# Altium integrated library Linear Technology Power Management Hot Swap Controllers.IntLib: 992 symbols (part 71 of 93)
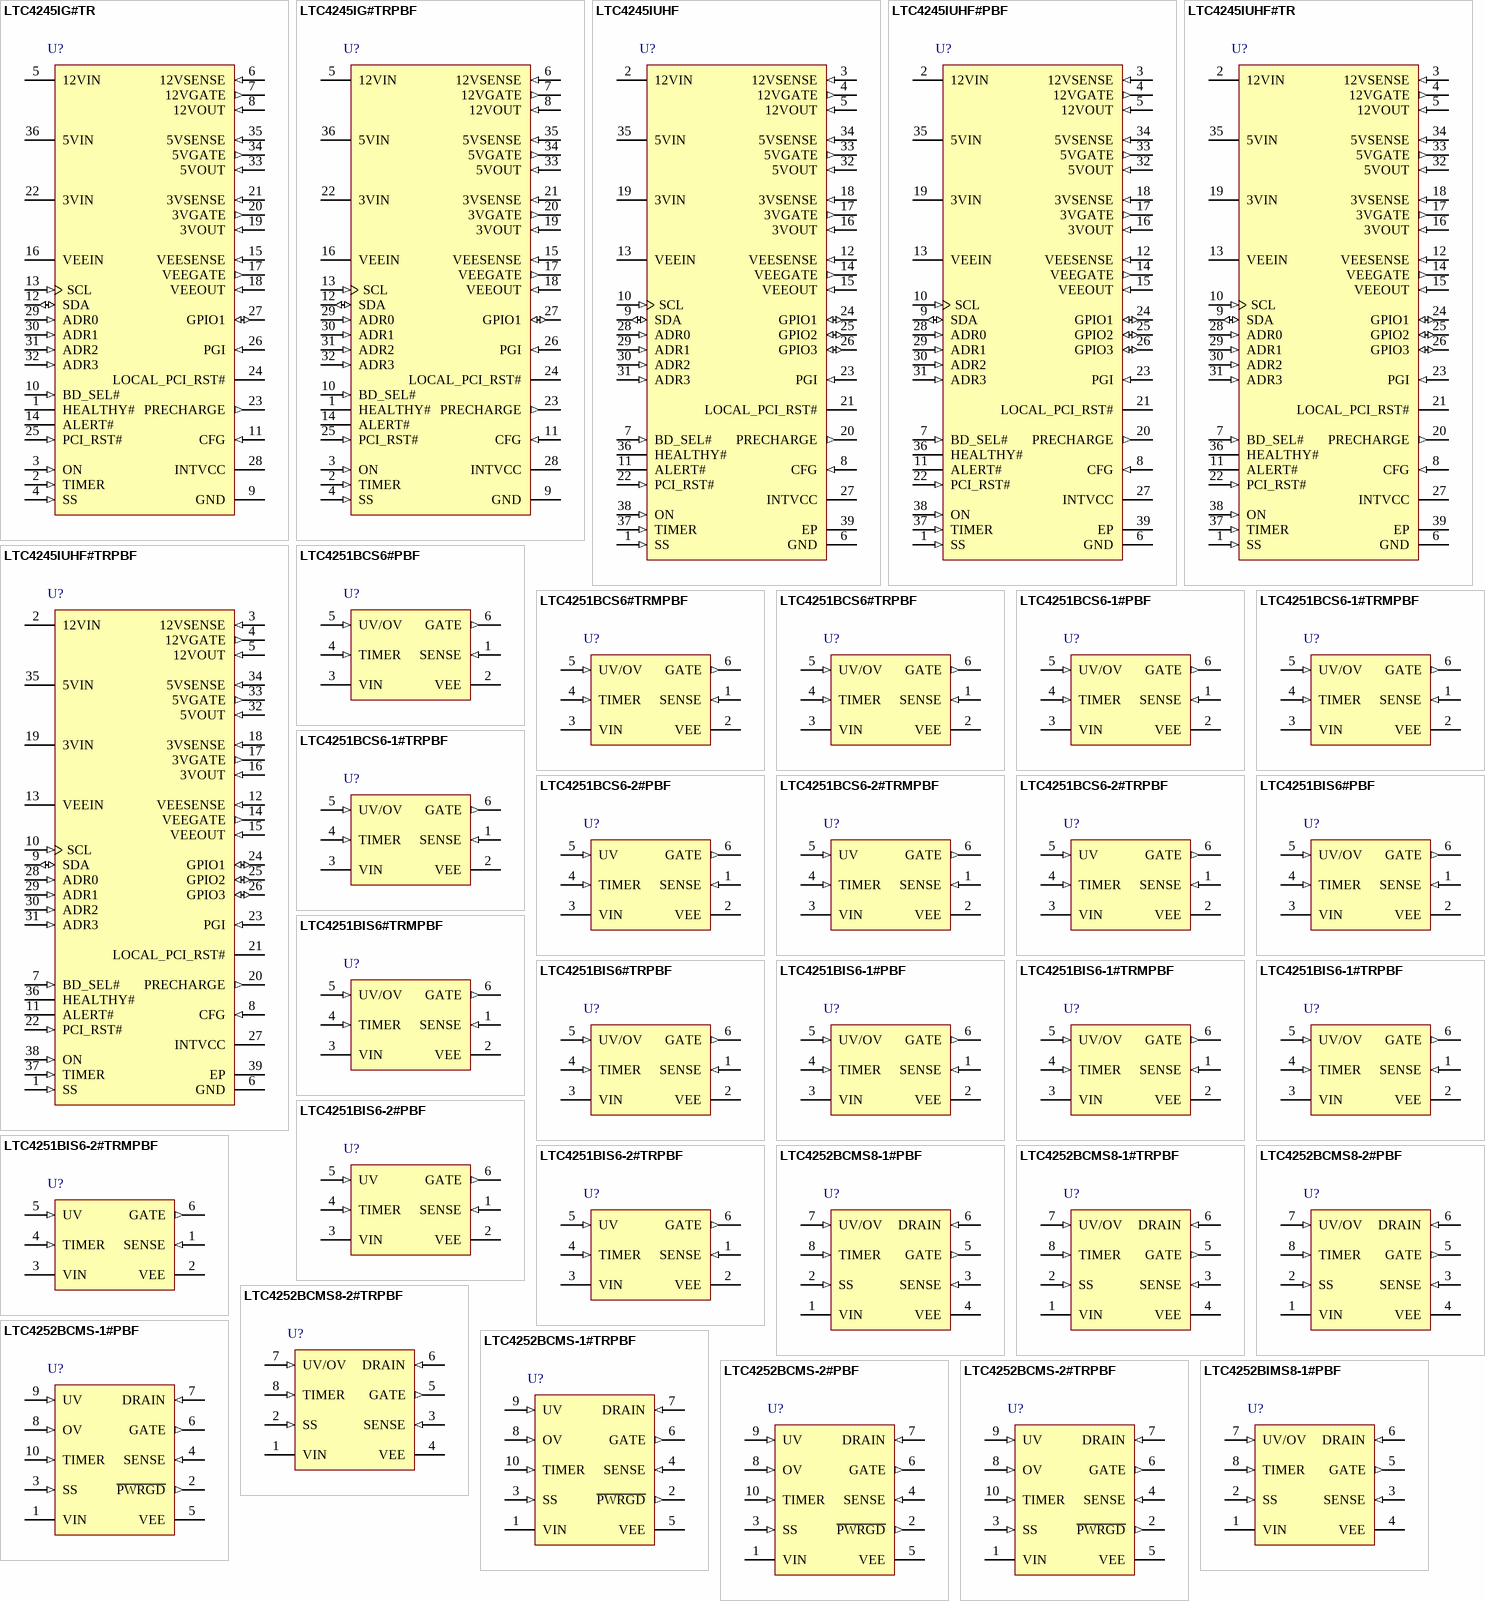
[diagram p107: symbols LTC4245IG#TR to LTC4252BIMS8-1#PBF]

## LTC4252BIMS8-1#PBF
designator U?
Negative Voltage Hot Swap Controller, 8-pin SOP (MS8-8), -40 to 85 degC, Pb-Free; Manufacturer: Linear Technology; PartNumber: LTC4252BIMS8-1#PBF; Active Limiting: yes; Circuit Breaker Accuracy(%): 20; Circuit Breaker Threshold: 50 mV; Circuit Breakers(#): 1; Extended Temp: C, I; In-Rush Current: Active/SS; PackageVersion: Rev. G, 03/2012; PackageReference: MS8-8; PackageDescription: 8-Pin Plastic MSOP, Body 3 x 3 mm, Pitch 0.65 mm; Supplier 1: Digi-Key; Supplier Part Number 1: LTC4252BIMS8-1#PBF-ND; Fast Comparator: yes; Fault: yes; Foldback: yes; Power Good: yes; Reset: yes; RoHS: TRUE; Mounting Technology: Surface Mount; ComponentLink1Description: Manufacturer URL; ComponentLink1URL: http://www.linear.com/; ComponentLink2Description: Datasheet; ComponentLink2URL: http://cds.linear.com/docs/en/datasheet/4252b12f.pdf; ComponentLink3Description: Package Specification; ComponentLink3URL: http://cds.linear.com/docs/en/packaging/05081660_G_MS8.pdf
footprint LT-MS8-8_N (SOP, 8-Leads, Body 3.1x3.1mm, Pitch 0.65mm, IPC Medium Density)
footprint LT-MS8-8_L (SOP, 8-Leads, Body 3.1x3.1mm, Pitch 0.65mm, IPC High Density)
footprint LT-MS8-8_M (SOP, 8-Leads, Body 3.1x3.1mm, Pitch 0.65mm, IPC Low Density)
pins: 1 VIN (power) "Positive Supply Input. Connect this pin to the positive side of the supply through a dropping resistor. A shunt regulator clamps VIN at 13V. An internal undervoltage lockout (UVLO) circuit holds GATE low until the VIN pin is (See Datasheet)", 2 SS (in) "Soft-Start Pin. This pin is used to ramp inrush current during start up, thereby effecting control over di/dt. A 20x attenuated version of the SS pin voltage is presented to the current limit amplifier. This attenuated (See Datasheet)", 3 SENSE (in) "Circuit Breaker/Current Limit Sense Pin. Load current is monitored by a sense resistor RS connected between SENSE and VEE, and controlled in three steps. If SENSE exceeds VCB (50mV), the circuit breaker comparator activates (See Datasheet)", 4 VEE (power) "Negative Supply Voltage Input. Connect this pin to the negative side of the power supply.", 5 GATE (out) "N-Channel MOSFET Gate Drive Output. This pin is pulled high by a 58uA current source. GATE is pulled low by invalid conditions at VIN (UVLO), UV, OV, or a circuit breaker fault timeout. GATE is actively servoed to control (See Datasheet)", 6 DRAIN (in) "Drain Sense Input. Connecting an external resistor, RD, between this pin and the MOSFET’s drain (VOUT) allows voltage sensing below 6.15V (5V for LTC4252C) and current feedback to TIMER. A comparator detects if DRAIN i(See Datasheet)", 7 UV/OV (in), 8 TIMER (in) "Timer Input. TIMER is used to generate an initial timing delay at start-up and to delay shutdown in the event of an output overload (circuit breaker fault). TIMER starts an initial timing cycle when the following conditions (See Datasheet)"

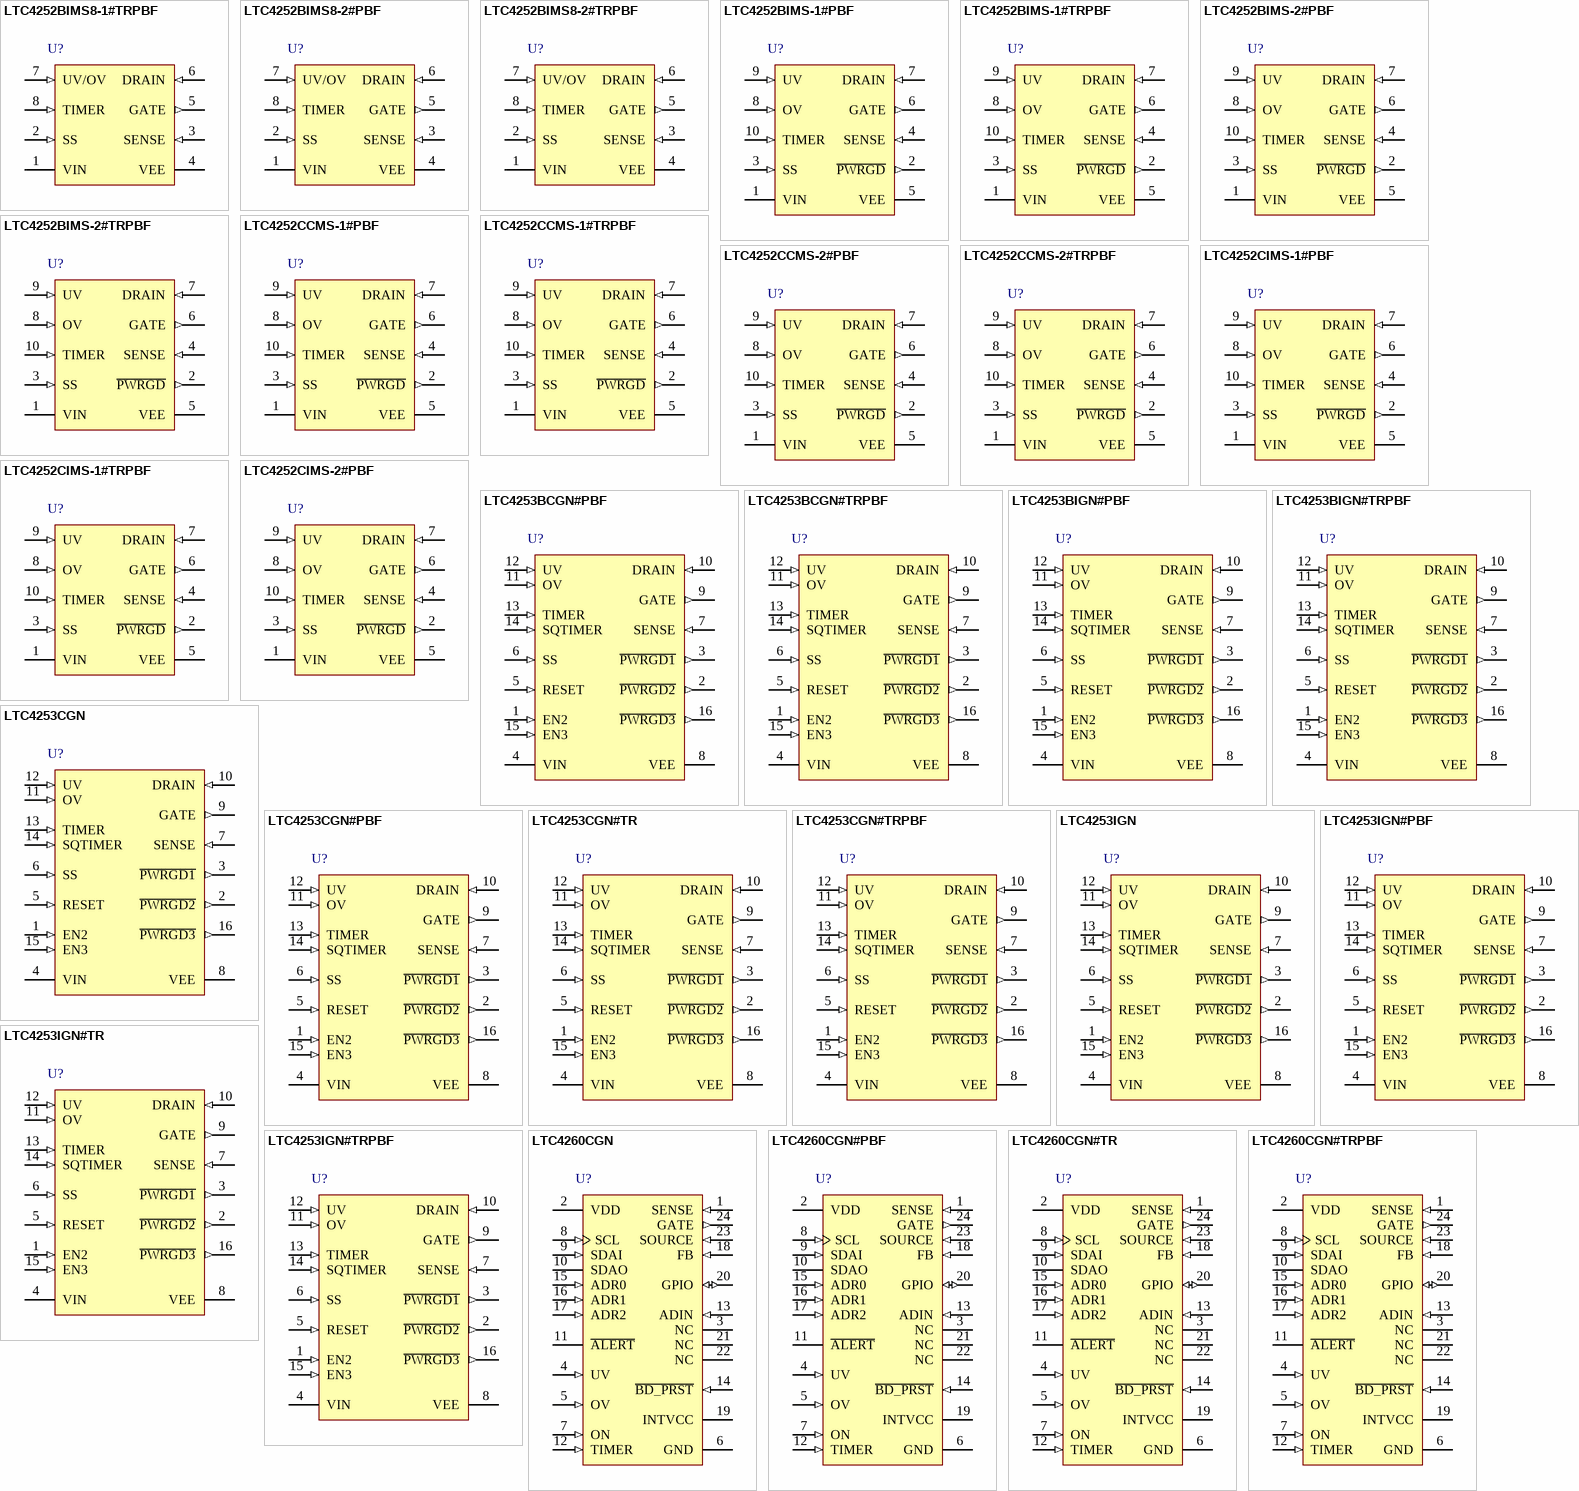
[diagram p29: symbols LTC4252BIMS8-1#TRPBF to LTC4260CGN#TRPBF]

## LTC4252BIMS8-1#TRPBF
designator U?
Negative Voltage Hot Swap Controller, 8-pin SOP (MS8-8), -40 to 85 degC, Pb-Free, Tape and Reel; Manufacturer: Linear Technology; PartNumber: LTC4252BIMS8-1#TRPBF; Active Limiting: yes; Circuit Breaker Accuracy(%): 20; Circuit Breaker Threshold: 50 mV; Circuit Breakers(#): 1; Extended Temp: C, I; In-Rush Current: Active/SS; PackageVersion: Rev. G, 03/2012; PackageReference: MS8-8; PackageDescription: 8-Pin Plastic MSOP, Body 3 x 3 mm, Pitch 0.65 mm; Supplier 1: Digi-Key; Supplier Part Number 1: LTC4252BIMS8-1#TRPBF-ND; Fast Comparator: yes; Fault: yes; Foldback: yes; Packing: Tape and Reel; Power Good: yes; Reset: yes; RoHS: TRUE; Mounting Technology: Surface Mount; ComponentLink1Description: Manufacturer URL; ComponentLink1URL: http://www.linear.com/; ComponentLink2Description: Datasheet; ComponentLink2URL: http://cds.linear.com/docs/en/datasheet/4252b12f.pdf; ComponentLink3Description: Package Specification; ComponentLink3URL: http://cds.linear.com/docs/en/packaging/05081660_G_MS8.pdf
footprint LT-MS8-8_N (SOP, 8-Leads, Body 3.1x3.1mm, Pitch 0.65mm, IPC Medium Density)
footprint LT-MS8-8_L (SOP, 8-Leads, Body 3.1x3.1mm, Pitch 0.65mm, IPC High Density)
footprint LT-MS8-8_M (SOP, 8-Leads, Body 3.1x3.1mm, Pitch 0.65mm, IPC Low Density)
pins: 1 VIN (power) "Positive Supply Input. Connect this pin to the positive side of the supply through a dropping resistor. A shunt regulator clamps VIN at 13V. An internal undervoltage lockout (UVLO) circuit holds GATE low until the VIN pin is (See Datasheet)", 2 SS (in) "Soft-Start Pin. This pin is used to ramp inrush current during start up, thereby effecting control over di/dt. A 20x attenuated version of the SS pin voltage is presented to the current limit amplifier. This attenuated (See Datasheet)", 3 SENSE (in) "Circuit Breaker/Current Limit Sense Pin. Load current is monitored by a sense resistor RS connected between SENSE and VEE, and controlled in three steps. If SENSE exceeds VCB (50mV), the circuit breaker comparator activates (See Datasheet)", 4 VEE (power) "Negative Supply Voltage Input. Connect this pin to the negative side of the power supply.", 5 GATE (out) "N-Channel MOSFET Gate Drive Output. This pin is pulled high by a 58uA current source. GATE is pulled low by invalid conditions at VIN (UVLO), UV, OV, or a circuit breaker fault timeout. GATE is actively servoed to control (See Datasheet)", 6 DRAIN (in) "Drain Sense Input. Connecting an external resistor, RD, between this pin and the MOSFET’s drain (VOUT) allows voltage sensing below 6.15V (5V for LTC4252C) and current feedback to TIMER. A comparator detects if DRAIN i(See Datasheet)", 7 UV/OV (in), 8 TIMER (in) "Timer Input. TIMER is used to generate an initial timing delay at start-up and to delay shutdown in the event of an output overload (circuit breaker fault). TIMER starts an initial timing cycle when the following conditions (See Datasheet)"

## LTC4252BIMS8-2#PBF
designator U?
Negative Voltage Hot Swap Controller, 8-pin SOP (MS8-8), -40 to 85 degC, Pb-Free; Manufacturer: Linear Technology; PartNumber: LTC4252BIMS8-2#PBF; Active Limiting: yes; Circuit Breaker Accuracy(%): 20; Circuit Breaker Threshold: 50 mV; Circuit Breakers(#): 1; Extended Temp: C, I; In-Rush Current: Active/SS; PackageVersion: Rev. G, 03/2012; PackageReference: MS8-8; PackageDescription: 8-Pin Plastic MSOP, Body 3 x 3 mm, Pitch 0.65 mm; Supplier 1: Digi-Key; Supplier Part Number 1: LTC4252BIMS8-2#PBF-ND; Fast Comparator: yes; Fault: yes; Foldback: yes; Power Good: yes; Reset: yes; RoHS: TRUE; Mounting Technology: Surface Mount; ComponentLink1Description: Manufacturer URL; ComponentLink1URL: http://www.linear.com/; ComponentLink2Description: Datasheet; ComponentLink2URL: http://cds.linear.com/docs/en/datasheet/4252b12f.pdf; ComponentLink3Description: Package Specification; ComponentLink3URL: http://cds.linear.com/docs/en/packaging/05081660_G_MS8.pdf
footprint LT-MS8-8_N (SOP, 8-Leads, Body 3.1x3.1mm, Pitch 0.65mm, IPC Medium Density)
footprint LT-MS8-8_L (SOP, 8-Leads, Body 3.1x3.1mm, Pitch 0.65mm, IPC High Density)
footprint LT-MS8-8_M (SOP, 8-Leads, Body 3.1x3.1mm, Pitch 0.65mm, IPC Low Density)
pins: 1 VIN (power) "Positive Supply Input. Connect this pin to the positive side of the supply through a dropping resistor. A shunt regulator clamps VIN at 13V. An internal undervoltage lockout (UVLO) circuit holds GATE low until the VIN pin is (See Datasheet)", 2 SS (in) "Soft-Start Pin. This pin is used to ramp inrush current during start up, thereby effecting control over di/dt. A 20x attenuated version of the SS pin voltage is presented to the current limit amplifier. This attenuated (See Datasheet)", 3 SENSE (in) "Circuit Breaker/Current Limit Sense Pin. Load current is monitored by a sense resistor RS connected between SENSE and VEE, and controlled in three steps. If SENSE exceeds VCB (50mV), the circuit breaker comparator activates (See Datasheet)", 4 VEE (power) "Negative Supply Voltage Input. Connect this pin to the negative side of the power supply.", 5 GATE (out) "N-Channel MOSFET Gate Drive Output. This pin is pulled high by a 58uA current source. GATE is pulled low by invalid conditions at VIN (UVLO), UV, OV, or a circuit breaker fault timeout. GATE is actively servoed to control (See Datasheet)", 6 DRAIN (in) "Drain Sense Input. Connecting an external resistor, RD, between this pin and the MOSFET’s drain (VOUT) allows voltage sensing below 6.15V (5V for LTC4252C) and current feedback to TIMER. A comparator detects if DRAIN i(See Datasheet)", 7 UV/OV (in), 8 TIMER (in) "Timer Input. TIMER is used to generate an initial timing delay at start-up and to delay shutdown in the event of an output overload (circuit breaker fault). TIMER starts an initial timing cycle when the following conditions (See Datasheet)"

## LTC4252BIMS8-2#TRPBF
designator U?
Negative Voltage Hot Swap Controller, 8-pin SOP (MS8-8), -40 to 85 degC, Pb-Free, Tape and Reel; Manufacturer: Linear Technology; PartNumber: LTC4252BIMS8-2#TRPBF; Active Limiting: yes; Circuit Breaker Accuracy(%): 20; Circuit Breaker Threshold: 50 mV; Circuit Breakers(#): 1; Extended Temp: C, I; In-Rush Current: Active/SS; PackageVersion: Rev. G, 03/2012; PackageReference: MS8-8; PackageDescription: 8-Pin Plastic MSOP, Body 3 x 3 mm, Pitch 0.65 mm; Supplier 1: Digi-Key; Supplier Part Number 1: LTC4252BIMS8-2#TRPBF-ND; Fast Comparator: yes; Fault: yes; Foldback: yes; Packing: Tape and Reel; Power Good: yes; Reset: yes; RoHS: TRUE; Mounting Technology: Surface Mount; ComponentLink1Description: Manufacturer URL; ComponentLink1URL: http://www.linear.com/; ComponentLink2Description: Datasheet; ComponentLink2URL: http://cds.linear.com/docs/en/datasheet/4252b12f.pdf; ComponentLink3Description: Package Specification; ComponentLink3URL: http://cds.linear.com/docs/en/packaging/05081660_G_MS8.pdf
footprint LT-MS8-8_N (SOP, 8-Leads, Body 3.1x3.1mm, Pitch 0.65mm, IPC Medium Density)
footprint LT-MS8-8_L (SOP, 8-Leads, Body 3.1x3.1mm, Pitch 0.65mm, IPC High Density)
footprint LT-MS8-8_M (SOP, 8-Leads, Body 3.1x3.1mm, Pitch 0.65mm, IPC Low Density)
pins: 1 VIN (power) "Positive Supply Input. Connect this pin to the positive side of the supply through a dropping resistor. A shunt regulator clamps VIN at 13V. An internal undervoltage lockout (UVLO) circuit holds GATE low until the VIN pin is (See Datasheet)", 2 SS (in) "Soft-Start Pin. This pin is used to ramp inrush current during start up, thereby effecting control over di/dt. A 20x attenuated version of the SS pin voltage is presented to the current limit amplifier. This attenuated (See Datasheet)", 3 SENSE (in) "Circuit Breaker/Current Limit Sense Pin. Load current is monitored by a sense resistor RS connected between SENSE and VEE, and controlled in three steps. If SENSE exceeds VCB (50mV), the circuit breaker comparator activates (See Datasheet)", 4 VEE (power) "Negative Supply Voltage Input. Connect this pin to the negative side of the power supply.", 5 GATE (out) "N-Channel MOSFET Gate Drive Output. This pin is pulled high by a 58uA current source. GATE is pulled low by invalid conditions at VIN (UVLO), UV, OV, or a circuit breaker fault timeout. GATE is actively servoed to control (See Datasheet)", 6 DRAIN (in) "Drain Sense Input. Connecting an external resistor, RD, between this pin and the MOSFET’s drain (VOUT) allows voltage sensing below 6.15V (5V for LTC4252C) and current feedback to TIMER. A comparator detects if DRAIN i(See Datasheet)", 7 UV/OV (in), 8 TIMER (in) "Timer Input. TIMER is used to generate an initial timing delay at start-up and to delay shutdown in the event of an output overload (circuit breaker fault). TIMER starts an initial timing cycle when the following conditions (See Datasheet)"

## LTC4252BIMS-1#PBF
designator U?
Negative Voltage Hot Swap Controller, 10-pin SOP (MS-10), -40 to 85 degC, Pb-Free; Manufacturer: Linear Technology; PartNumber: LTC4252BIMS-1#PBF; Active Limiting: yes; Circuit Breaker Accuracy(%): 20; Circuit Breaker Threshold: 50 mV; Circuit Breakers(#): 1; Extended Temp: C, I; In-Rush Current: Active/SS; PackageVersion: Rev. E, 06/2010; PackageReference: MS-10; PackageDescription: 10-Pin Plastic MSOP, Body 3 x 3 mm, Pitch 0.5 mm; Supplier 1: Digi-Key; Supplier Part Number 1: LTC4252BIMS-1#PBF-ND; Fast Comparator: yes; Fault: yes; Foldback: yes; Power Good: yes; Reset: yes; RoHS: TRUE; Mounting Technology: Surface Mount; ComponentLink1Description: Manufacturer URL; ComponentLink1URL: http://www.linear.com/; ComponentLink2Description: Datasheet; ComponentLink2URL: http://cds.linear.com/docs/en/datasheet/4252b12f.pdf; ComponentLink3Description: Package Specification; ComponentLink3URL: http://cds.linear.com/docs/en/packaging/05081661_F_MS.pdf
footprint LT-MS-10_N (SOP, 10-Leads, Body 3.1x3.1mm, Pitch 0.5mm, IPC Medium Density)
footprint LT-MS-10_L (SOP, 10-Leads, Body 3.1x3.1mm, Pitch 0.5mm, IPC High Density)
footprint LT-MS-10_M (SOP, 10-Leads, Body 3.1x3.1mm, Pitch 0.5mm, IPC Low Density)
pins: 1 VIN (power) "Positive Supply Input. Connect this pin to the positive side of the supply through a dropping resistor. A shunt regulator clamps VIN at 13V. An internal undervoltage lockout (UVLO) circuit holds GATE low until the VIN pin is (See Datasheet)", 2 ~{PWRGD} (out) "Power Good Status Output (MS only). At start-up, P\W\R\G\D\ latches low if DRAIN is below 2.385V and GATE is within 2.8V of VIN. P\W\R\G\D\ status is reset by UV, VIN (UVLO) or a circuit breaker fault timeout. This pin is (See Datasheet)", 3 SS (in) "Soft-Start Pin. This pin is used to ramp inrush current during start up, thereby effecting control over di/dt. A 20x attenuated version of the SS pin voltage is presented to the current limit amplifier. This attenuated (See Datasheet)", 4 SENSE (in) "Circuit Breaker/Current Limit Sense Pin. Load current is monitored by a sense resistor RS connected between SENSE and VEE, and controlled in three steps. If SENSE exceeds VCB (50mV), the circuit breaker comparator activates (See Datasheet)", 5 VEE (power) "Negative Supply Voltage Input. Connect this pin to the negative side of the power supply.", 6 GATE (out) "N-Channel MOSFET Gate Drive Output. This pin is pulled high by a 58uA current source. GATE is pulled low by invalid conditions at VIN (UVLO), UV, OV, or a circuit breaker fault timeout. GATE is actively servoed to control (See Datasheet)", 7 DRAIN (in) "Drain Sense Input. Connecting an external resistor, RD, between this pin and the MOSFET’s drain (VOUT) allows voltage sensing below 6.15V (5V for LTC4252C) and current feedback to TIMER. A comparator detects if DRAIN i(See Datasheet)", 8 OV (in) "Overvoltage Input. The active high threshold at the OV pin is set at 6.15V with 0.6V hysteresis. If OV > 6.15V, GATE pulls low. When OV returns below 5.55V, GATE start-up begins without an initial timing cycle. The LTC4252C (See Datasheet)", 9 UV (in) "Undervoltage Input. The active low threshold at the UV pin is set at 2.925V with 0.3V hysteresis. If UV < 2.925V, P\W\R\G\D\ pulls high, both GATE and TIMER pull low. If UV rises above 3.225V, this initiates an initial (See Datasheet)", 10 TIMER (in) "Timer Input. TIMER is used to generate an initial timing delay at start-up and to delay shutdown in the event of an output overload (circuit breaker fault). TIMER starts an initial timing cycle when the following conditions (See Datasheet)"

## LTC4252BIMS-1#TRPBF
designator U?
Negative Voltage Hot Swap Controller, 10-pin SOP (MS-10), -40 to 85 degC, Pb-Free, Tape and Reel; Manufacturer: Linear Technology; PartNumber: LTC4252BIMS-1#TRPBF; Active Limiting: yes; Circuit Breaker Accuracy(%): 20; Circuit Breaker Threshold: 50 mV; Circuit Breakers(#): 1; Extended Temp: C, I; In-Rush Current: Active/SS; PackageVersion: Rev. E, 06/2010; PackageReference: MS-10; PackageDescription: 10-Pin Plastic MSOP, Body 3 x 3 mm, Pitch 0.5 mm; Supplier 1: Digi-Key; Supplier Part Number 1: LTC4252BIMS-1#TRPBF-ND; Fast Comparator: yes; Fault: yes; Foldback: yes; Packing: Tape and Reel; Power Good: yes; Reset: yes; RoHS: TRUE; Mounting Technology: Surface Mount; ComponentLink1Description: Manufacturer URL; ComponentLink1URL: http://www.linear.com/; ComponentLink2Description: Datasheet; ComponentLink2URL: http://cds.linear.com/docs/en/datasheet/4252b12f.pdf; ComponentLink3Description: Package Specification; ComponentLink3URL: http://cds.linear.com/docs/en/packaging/05081661_F_MS.pdf
footprint LT-MS-10_N (SOP, 10-Leads, Body 3.1x3.1mm, Pitch 0.5mm, IPC Medium Density)
footprint LT-MS-10_L (SOP, 10-Leads, Body 3.1x3.1mm, Pitch 0.5mm, IPC High Density)
footprint LT-MS-10_M (SOP, 10-Leads, Body 3.1x3.1mm, Pitch 0.5mm, IPC Low Density)
pins: 1 VIN (power) "Positive Supply Input. Connect this pin to the positive side of the supply through a dropping resistor. A shunt regulator clamps VIN at 13V. An internal undervoltage lockout (UVLO) circuit holds GATE low until the VIN pin is (See Datasheet)", 2 ~{PWRGD} (out) "Power Good Status Output (MS only). At start-up, P\W\R\G\D\ latches low if DRAIN is below 2.385V and GATE is within 2.8V of VIN. P\W\R\G\D\ status is reset by UV, VIN (UVLO) or a circuit breaker fault timeout. This pin is (See Datasheet)", 3 SS (in) "Soft-Start Pin. This pin is used to ramp inrush current during start up, thereby effecting control over di/dt. A 20x attenuated version of the SS pin voltage is presented to the current limit amplifier. This attenuated (See Datasheet)", 4 SENSE (in) "Circuit Breaker/Current Limit Sense Pin. Load current is monitored by a sense resistor RS connected between SENSE and VEE, and controlled in three steps. If SENSE exceeds VCB (50mV), the circuit breaker comparator activates (See Datasheet)", 5 VEE (power) "Negative Supply Voltage Input. Connect this pin to the negative side of the power supply.", 6 GATE (out) "N-Channel MOSFET Gate Drive Output. This pin is pulled high by a 58uA current source. GATE is pulled low by invalid conditions at VIN (UVLO), UV, OV, or a circuit breaker fault timeout. GATE is actively servoed to control (See Datasheet)", 7 DRAIN (in) "Drain Sense Input. Connecting an external resistor, RD, between this pin and the MOSFET’s drain (VOUT) allows voltage sensing below 6.15V (5V for LTC4252C) and current feedback to TIMER. A comparator detects if DRAIN i(See Datasheet)", 8 OV (in) "Overvoltage Input. The active high threshold at the OV pin is set at 6.15V with 0.6V hysteresis. If OV > 6.15V, GATE pulls low. When OV returns below 5.55V, GATE start-up begins without an initial timing cycle. The LTC4252C (See Datasheet)", 9 UV (in) "Undervoltage Input. The active low threshold at the UV pin is set at 2.925V with 0.3V hysteresis. If UV < 2.925V, P\W\R\G\D\ pulls high, both GATE and TIMER pull low. If UV rises above 3.225V, this initiates an initial (See Datasheet)", 10 TIMER (in) "Timer Input. TIMER is used to generate an initial timing delay at start-up and to delay shutdown in the event of an output overload (circuit breaker fault). TIMER starts an initial timing cycle when the following conditions (See Datasheet)"

## LTC4252BIMS-2#PBF
designator U?
Negative Voltage Hot Swap Controller, 10-pin SOP (MS-10), -40 to 85 degC, Pb-Free; Manufacturer: Linear Technology; PartNumber: LTC4252BIMS-2#PBF; Active Limiting: yes; Circuit Breaker Accuracy(%): 20; Circuit Breaker Threshold: 50 mV; Circuit Breakers(#): 1; Extended Temp: C, I; In-Rush Current: Active/SS; PackageVersion: Rev. E, 06/2010; PackageReference: MS-10; PackageDescription: 10-Pin Plastic MSOP, Body 3 x 3 mm, Pitch 0.5 mm; Supplier 1: Digi-Key; Supplier Part Number 1: LTC4252BIMS-2#PBF-ND; Supplier 2: Newark; Supplier Part Number 2: 82T3933; Fast Comparator: yes; Fault: yes; Foldback: yes; Power Good: yes; Reset: yes; RoHS: TRUE; Mounting Technology: Surface Mount; ComponentLink1Description: Manufacturer URL; ComponentLink1URL: http://www.linear.com/; ComponentLink2Description: Datasheet; ComponentLink2URL: http://cds.linear.com/docs/en/datasheet/4252b12f.pdf; ComponentLink3Description: Package Specification; ComponentLink3URL: http://cds.linear.com/docs/en/packaging/05081661_F_MS.pdf
footprint LT-MS-10_N (SOP, 10-Leads, Body 3.1x3.1mm, Pitch 0.5mm, IPC Medium Density)
footprint LT-MS-10_L (SOP, 10-Leads, Body 3.1x3.1mm, Pitch 0.5mm, IPC High Density)
footprint LT-MS-10_M (SOP, 10-Leads, Body 3.1x3.1mm, Pitch 0.5mm, IPC Low Density)
pins: 1 VIN (power) "Positive Supply Input. Connect this pin to the positive side of the supply through a dropping resistor. A shunt regulator clamps VIN at 13V. An internal undervoltage lockout (UVLO) circuit holds GATE low until the VIN pin is (See Datasheet)", 2 ~{PWRGD} (out) "Power Good Status Output (MS only). At start-up, P\W\R\G\D\ latches low if DRAIN is below 2.385V and GATE is within 2.8V of VIN. P\W\R\G\D\ status is reset by UV, VIN (UVLO) or a circuit breaker fault timeout. This pin is (See Datasheet)", 3 SS (in) "Soft-Start Pin. This pin is used to ramp inrush current during start up, thereby effecting control over di/dt. A 20x attenuated version of the SS pin voltage is presented to the current limit amplifier. This attenuated (See Datasheet)", 4 SENSE (in) "Circuit Breaker/Current Limit Sense Pin. Load current is monitored by a sense resistor RS connected between SENSE and VEE, and controlled in three steps. If SENSE exceeds VCB (50mV), the circuit breaker comparator activates (See Datasheet)", 5 VEE (power) "Negative Supply Voltage Input. Connect this pin to the negative side of the power supply.", 6 GATE (out) "N-Channel MOSFET Gate Drive Output. This pin is pulled high by a 58uA current source. GATE is pulled low by invalid conditions at VIN (UVLO), UV, OV, or a circuit breaker fault timeout. GATE is actively servoed to control (See Datasheet)", 7 DRAIN (in) "Drain Sense Input. Connecting an external resistor, RD, between this pin and the MOSFET’s drain (VOUT) allows voltage sensing below 6.15V (5V for LTC4252C) and current feedback to TIMER. A comparator detects if DRAIN i(See Datasheet)", 8 OV (in) "Overvoltage Input. The active high threshold at the OV pin is set at 6.15V with 0.6V hysteresis. If OV > 6.15V, GATE pulls low. When OV returns below 5.55V, GATE start-up begins without an initial timing cycle. The LTC4252C (See Datasheet)", 9 UV (in) "Undervoltage Input. The active low threshold at the UV pin is set at 2.925V with 0.3V hysteresis. If UV < 2.925V, P\W\R\G\D\ pulls high, both GATE and TIMER pull low. If UV rises above 3.225V, this initiates an initial (See Datasheet)", 10 TIMER (in) "Timer Input. TIMER is used to generate an initial timing delay at start-up and to delay shutdown in the event of an output overload (circuit breaker fault). TIMER starts an initial timing cycle when the following conditions (See Datasheet)"

## LTC4252BIMS-2#TRPBF
designator U?
Negative Voltage Hot Swap Controller, 10-pin SOP (MS-10), -40 to 85 degC, Pb-Free, Tape and Reel; Manufacturer: Linear Technology; PartNumber: LTC4252BIMS-2#TRPBF; Active Limiting: yes; Circuit Breaker Accuracy(%): 20; Circuit Breaker Threshold: 50 mV; Circuit Breakers(#): 1; Extended Temp: C, I; In-Rush Current: Active/SS; PackageVersion: Rev. E, 06/2010; PackageReference: MS-10; PackageDescription: 10-Pin Plastic MSOP, Body 3 x 3 mm, Pitch 0.5 mm; Supplier 1: Digi-Key; Supplier Part Number 1: LTC4252BIMS-2#TRPBF-ND; Supplier 2: Newark; Supplier Part Number 2: 82T3934; Fast Comparator: yes; Fault: yes; Foldback: yes; Packing: Tape and Reel; Power Good: yes; Reset: yes; RoHS: TRUE; Mounting Technology: Surface Mount; ComponentLink1Description: Manufacturer URL; ComponentLink1URL: http://www.linear.com/; ComponentLink2Description: Datasheet; ComponentLink2URL: http://cds.linear.com/docs/en/datasheet/4252b12f.pdf; ComponentLink3Description: Package Specification; ComponentLink3URL: http://cds.linear.com/docs/en/packaging/05081661_F_MS.pdf
footprint LT-MS-10_N (SOP, 10-Leads, Body 3.1x3.1mm, Pitch 0.5mm, IPC Medium Density)
footprint LT-MS-10_L (SOP, 10-Leads, Body 3.1x3.1mm, Pitch 0.5mm, IPC High Density)
footprint LT-MS-10_M (SOP, 10-Leads, Body 3.1x3.1mm, Pitch 0.5mm, IPC Low Density)
pins: 1 VIN (power) "Positive Supply Input. Connect this pin to the positive side of the supply through a dropping resistor. A shunt regulator clamps VIN at 13V. An internal undervoltage lockout (UVLO) circuit holds GATE low until the VIN pin is (See Datasheet)", 2 ~{PWRGD} (out) "Power Good Status Output (MS only). At start-up, P\W\R\G\D\ latches low if DRAIN is below 2.385V and GATE is within 2.8V of VIN. P\W\R\G\D\ status is reset by UV, VIN (UVLO) or a circuit breaker fault timeout. This pin is (See Datasheet)", 3 SS (in) "Soft-Start Pin. This pin is used to ramp inrush current during start up, thereby effecting control over di/dt. A 20x attenuated version of the SS pin voltage is presented to the current limit amplifier. This attenuated (See Datasheet)", 4 SENSE (in) "Circuit Breaker/Current Limit Sense Pin. Load current is monitored by a sense resistor RS connected between SENSE and VEE, and controlled in three steps. If SENSE exceeds VCB (50mV), the circuit breaker comparator activates (See Datasheet)", 5 VEE (power) "Negative Supply Voltage Input. Connect this pin to the negative side of the power supply.", 6 GATE (out) "N-Channel MOSFET Gate Drive Output. This pin is pulled high by a 58uA current source. GATE is pulled low by invalid conditions at VIN (UVLO), UV, OV, or a circuit breaker fault timeout. GATE is actively servoed to control (See Datasheet)", 7 DRAIN (in) "Drain Sense Input. Connecting an external resistor, RD, between this pin and the MOSFET’s drain (VOUT) allows voltage sensing below 6.15V (5V for LTC4252C) and current feedback to TIMER. A comparator detects if DRAIN i(See Datasheet)", 8 OV (in) "Overvoltage Input. The active high threshold at the OV pin is set at 6.15V with 0.6V hysteresis. If OV > 6.15V, GATE pulls low. When OV returns below 5.55V, GATE start-up begins without an initial timing cycle. The LTC4252C (See Datasheet)", 9 UV (in) "Undervoltage Input. The active low threshold at the UV pin is set at 2.925V with 0.3V hysteresis. If UV < 2.925V, P\W\R\G\D\ pulls high, both GATE and TIMER pull low. If UV rises above 3.225V, this initiates an initial (See Datasheet)", 10 TIMER (in) "Timer Input. TIMER is used to generate an initial timing delay at start-up and to delay shutdown in the event of an output overload (circuit breaker fault). TIMER starts an initial timing cycle when the following conditions (See Datasheet)"

## LTC4252CCMS-1#PBF
designator U?
Negative Voltage Hot Swap Controller, 10-pin SOP (MS-10), 0 to 70 degC, Pb-Free; Manufacturer: Linear Technology; PartNumber: LTC4252CCMS-1#PBF; Active Limiting: yes; Circuit Breaker Accuracy(%): 10; Circuit Breaker Threshold: 50 mV; Circuit Breakers(#): 1; Extended Temp: C, I; In-Rush Current: Active/SS; PackageVersion: Rev. E, 06/2010; PackageReference: MS-10; PackageDescription: 10-Pin Plastic MSOP, Body 3 x 3 mm, Pitch 0.5 mm; Supplier 1: Digi-Key; Supplier Part Number 1: LTC4252CCMS-1#PBF-ND; Supplier 2: Newark; Supplier Part Number 2: 82T3939; Fast Comparator: yes; Fault: yes; Foldback: yes; Power Good: yes; Reset: yes; RoHS: TRUE; Mounting Technology: Surface Mount; ComponentLink1Description: Manufacturer URL; ComponentLink1URL: http://www.linear.com/; ComponentLink2Description: Datasheet; ComponentLink2URL: http://cds.linear.com/docs/en/datasheet/4252b12f.pdf; ComponentLink3Description: Package Specification; ComponentLink3URL: http://cds.linear.com/docs/en/packaging/05081661_F_MS.pdf
footprint LT-MS-10_N (SOP, 10-Leads, Body 3.1x3.1mm, Pitch 0.5mm, IPC Medium Density)
footprint LT-MS-10_L (SOP, 10-Leads, Body 3.1x3.1mm, Pitch 0.5mm, IPC High Density)
footprint LT-MS-10_M (SOP, 10-Leads, Body 3.1x3.1mm, Pitch 0.5mm, IPC Low Density)
pins: 1 VIN (power) "Positive Supply Input. Connect this pin to the positive side of the supply through a dropping resistor. A shunt regulator clamps VIN at 13V. An internal undervoltage lockout (UVLO) circuit holds GATE low until the VIN pin is (See Datasheet)", 2 ~{PWRGD} (out) "Power Good Status Output (MS only). At start-up, P\W\R\G\D\ latches low if DRAIN is below 2.385V and GATE is within 2.8V of VIN. P\W\R\G\D\ status is reset by UV, VIN (UVLO) or a circuit breaker fault timeout. This pin is (See Datasheet)", 3 SS (in) "Soft-Start Pin. This pin is used to ramp inrush current during start up, thereby effecting control over di/dt. A 20x attenuated version of the SS pin voltage is presented to the current limit amplifier. This attenuated (See Datasheet)", 4 SENSE (in) "Circuit Breaker/Current Limit Sense Pin. Load current is monitored by a sense resistor RS connected between SENSE and VEE, and controlled in three steps. If SENSE exceeds VCB (50mV), the circuit breaker comparator activates (See Datasheet)", 5 VEE (power) "Negative Supply Voltage Input. Connect this pin to the negative side of the power supply.", 6 GATE (out) "N-Channel MOSFET Gate Drive Output. This pin is pulled high by a 58uA current source. GATE is pulled low by invalid conditions at VIN (UVLO), UV, OV, or a circuit breaker fault timeout. GATE is actively servoed to control (See Datasheet)", 7 DRAIN (in) "Drain Sense Input. Connecting an external resistor, RD, between this pin and the MOSFET’s drain (VOUT) allows voltage sensing below 6.15V (5V for LTC4252C) and current feedback to TIMER. A comparator detects if DRAIN i(See Datasheet)", 8 OV (in) "Overvoltage Input. The active high threshold at the OV pin is set at 6.15V with 0.6V hysteresis. If OV > 6.15V, GATE pulls low. When OV returns below 5.55V, GATE start-up begins without an initial timing cycle. The LTC4252C (See Datasheet)", 9 UV (in) "Undervoltage Input. The active low threshold at the UV pin is set at 2.925V with 0.3V hysteresis. If UV < 2.925V, P\W\R\G\D\ pulls high, both GATE and TIMER pull low. If UV rises above 3.225V, this initiates an initial (See Datasheet)", 10 TIMER (in) "Timer Input. TIMER is used to generate an initial timing delay at start-up and to delay shutdown in the event of an output overload (circuit breaker fault). TIMER starts an initial timing cycle when the following conditions (See Datasheet)"

## LTC4252CCMS-1#TRPBF
designator U?
Negative Voltage Hot Swap Controller, 10-pin SOP (MS-10), 0 to 70 degC, Pb-Free, Tape and Reel; Manufacturer: Linear Technology; PartNumber: LTC4252CCMS-1#TRPBF; Active Limiting: yes; Circuit Breaker Accuracy(%): 10; Circuit Breaker Threshold: 50 mV; Circuit Breakers(#): 1; Extended Temp: C, I; In-Rush Current: Active/SS; PackageVersion: Rev. E, 06/2010; PackageReference: MS-10; PackageDescription: 10-Pin Plastic MSOP, Body 3 x 3 mm, Pitch 0.5 mm; Supplier 1: Digi-Key; Supplier Part Number 1: LTC4252CCMS-1#TRPBF-ND; Fast Comparator: yes; Fault: yes; Foldback: yes; Packing: Tape and Reel; Power Good: yes; Reset: yes; RoHS: TRUE; Mounting Technology: Surface Mount; ComponentLink1Description: Manufacturer URL; ComponentLink1URL: http://www.linear.com/; ComponentLink2Description: Datasheet; ComponentLink2URL: http://cds.linear.com/docs/en/datasheet/4252b12f.pdf; ComponentLink3Description: Package Specification; ComponentLink3URL: http://cds.linear.com/docs/en/packaging/05081661_F_MS.pdf
footprint LT-MS-10_N (SOP, 10-Leads, Body 3.1x3.1mm, Pitch 0.5mm, IPC Medium Density)
footprint LT-MS-10_L (SOP, 10-Leads, Body 3.1x3.1mm, Pitch 0.5mm, IPC High Density)
footprint LT-MS-10_M (SOP, 10-Leads, Body 3.1x3.1mm, Pitch 0.5mm, IPC Low Density)
pins: 1 VIN (power) "Positive Supply Input. Connect this pin to the positive side of the supply through a dropping resistor. A shunt regulator clamps VIN at 13V. An internal undervoltage lockout (UVLO) circuit holds GATE low until the VIN pin is (See Datasheet)", 2 ~{PWRGD} (out) "Power Good Status Output (MS only). At start-up, P\W\R\G\D\ latches low if DRAIN is below 2.385V and GATE is within 2.8V of VIN. P\W\R\G\D\ status is reset by UV, VIN (UVLO) or a circuit breaker fault timeout. This pin is (See Datasheet)", 3 SS (in) "Soft-Start Pin. This pin is used to ramp inrush current during start up, thereby effecting control over di/dt. A 20x attenuated version of the SS pin voltage is presented to the current limit amplifier. This attenuated (See Datasheet)", 4 SENSE (in) "Circuit Breaker/Current Limit Sense Pin. Load current is monitored by a sense resistor RS connected between SENSE and VEE, and controlled in three steps. If SENSE exceeds VCB (50mV), the circuit breaker comparator activates (See Datasheet)", 5 VEE (power) "Negative Supply Voltage Input. Connect this pin to the negative side of the power supply.", 6 GATE (out) "N-Channel MOSFET Gate Drive Output. This pin is pulled high by a 58uA current source. GATE is pulled low by invalid conditions at VIN (UVLO), UV, OV, or a circuit breaker fault timeout. GATE is actively servoed to control (See Datasheet)", 7 DRAIN (in) "Drain Sense Input. Connecting an external resistor, RD, between this pin and the MOSFET’s drain (VOUT) allows voltage sensing below 6.15V (5V for LTC4252C) and current feedback to TIMER. A comparator detects if DRAIN i(See Datasheet)", 8 OV (in) "Overvoltage Input. The active high threshold at the OV pin is set at 6.15V with 0.6V hysteresis. If OV > 6.15V, GATE pulls low. When OV returns below 5.55V, GATE start-up begins without an initial timing cycle. The LTC4252C (See Datasheet)", 9 UV (in) "Undervoltage Input. The active low threshold at the UV pin is set at 2.925V with 0.3V hysteresis. If UV < 2.925V, P\W\R\G\D\ pulls high, both GATE and TIMER pull low. If UV rises above 3.225V, this initiates an initial (See Datasheet)", 10 TIMER (in) "Timer Input. TIMER is used to generate an initial timing delay at start-up and to delay shutdown in the event of an output overload (circuit breaker fault). TIMER starts an initial timing cycle when the following conditions (See Datasheet)"

## LTC4252CCMS-2#PBF
designator U?
Negative Voltage Hot Swap Controller, 10-pin SOP (MS-10), 0 to 70 degC, Pb-Free; Manufacturer: Linear Technology; PartNumber: LTC4252CCMS-2#PBF; Active Limiting: yes; Circuit Breaker Accuracy(%): 10; Circuit Breaker Threshold: 50 mV; Circuit Breakers(#): 1; Extended Temp: C, I; In-Rush Current: Active/SS; PackageVersion: Rev. E, 06/2010; PackageReference: MS-10; PackageDescription: 10-Pin Plastic MSOP, Body 3 x 3 mm, Pitch 0.5 mm; Supplier 1: Digi-Key; Supplier Part Number 1: LTC4252CCMS-2#PBF-ND; Fast Comparator: yes; Fault: yes; Foldback: yes; Power Good: yes; Reset: yes; RoHS: TRUE; Mounting Technology: Surface Mount; ComponentLink1Description: Manufacturer URL; ComponentLink1URL: http://www.linear.com/; ComponentLink2Description: Datasheet; ComponentLink2URL: http://cds.linear.com/docs/en/datasheet/4252b12f.pdf; ComponentLink3Description: Package Specification; ComponentLink3URL: http://cds.linear.com/docs/en/packaging/05081661_F_MS.pdf
footprint LT-MS-10_N (SOP, 10-Leads, Body 3.1x3.1mm, Pitch 0.5mm, IPC Medium Density)
footprint LT-MS-10_L (SOP, 10-Leads, Body 3.1x3.1mm, Pitch 0.5mm, IPC High Density)
footprint LT-MS-10_M (SOP, 10-Leads, Body 3.1x3.1mm, Pitch 0.5mm, IPC Low Density)
pins: 1 VIN (power) "Positive Supply Input. Connect this pin to the positive side of the supply through a dropping resistor. A shunt regulator clamps VIN at 13V. An internal undervoltage lockout (UVLO) circuit holds GATE low until the VIN pin is (See Datasheet)", 2 ~{PWRGD} (out) "Power Good Status Output (MS only). At start-up, P\W\R\G\D\ latches low if DRAIN is below 2.385V and GATE is within 2.8V of VIN. P\W\R\G\D\ status is reset by UV, VIN (UVLO) or a circuit breaker fault timeout. This pin is (See Datasheet)", 3 SS (in) "Soft-Start Pin. This pin is used to ramp inrush current during start up, thereby effecting control over di/dt. A 20x attenuated version of the SS pin voltage is presented to the current limit amplifier. This attenuated (See Datasheet)", 4 SENSE (in) "Circuit Breaker/Current Limit Sense Pin. Load current is monitored by a sense resistor RS connected between SENSE and VEE, and controlled in three steps. If SENSE exceeds VCB (50mV), the circuit breaker comparator activates (See Datasheet)", 5 VEE (power) "Negative Supply Voltage Input. Connect this pin to the negative side of the power supply.", 6 GATE (out) "N-Channel MOSFET Gate Drive Output. This pin is pulled high by a 58uA current source. GATE is pulled low by invalid conditions at VIN (UVLO), UV, OV, or a circuit breaker fault timeout. GATE is actively servoed to control (See Datasheet)", 7 DRAIN (in) "Drain Sense Input. Connecting an external resistor, RD, between this pin and the MOSFET’s drain (VOUT) allows voltage sensing below 6.15V (5V for LTC4252C) and current feedback to TIMER. A comparator detects if DRAIN i(See Datasheet)", 8 OV (in) "Overvoltage Input. The active high threshold at the OV pin is set at 6.15V with 0.6V hysteresis. If OV > 6.15V, GATE pulls low. When OV returns below 5.55V, GATE start-up begins without an initial timing cycle. The LTC4252C (See Datasheet)", 9 UV (in) "Undervoltage Input. The active low threshold at the UV pin is set at 2.925V with 0.3V hysteresis. If UV < 2.925V, P\W\R\G\D\ pulls high, both GATE and TIMER pull low. If UV rises above 3.225V, this initiates an initial (See Datasheet)", 10 TIMER (in) "Timer Input. TIMER is used to generate an initial timing delay at start-up and to delay shutdown in the event of an output overload (circuit breaker fault). TIMER starts an initial timing cycle when the following conditions (See Datasheet)"

## LTC4252CCMS-2#TRPBF
designator U?
Negative Voltage Hot Swap Controller, 10-pin SOP (MS-10), 0 to 70 degC, Pb-Free, Tape and Reel; Manufacturer: Linear Technology; PartNumber: LTC4252CCMS-2#TRPBF; Active Limiting: yes; Circuit Breaker Accuracy(%): 10; Circuit Breaker Threshold: 50 mV; Circuit Breakers(#): 1; Extended Temp: C, I; In-Rush Current: Active/SS; PackageVersion: Rev. E, 06/2010; PackageReference: MS-10; PackageDescription: 10-Pin Plastic MSOP, Body 3 x 3 mm, Pitch 0.5 mm; Supplier 1: Digi-Key; Supplier Part Number 1: LTC4252CCMS-2#TRPBF-ND; Supplier 2: Newark; Supplier Part Number 2: 82T3942; Fast Comparator: yes; Fault: yes; Foldback: yes; Packing: Tape and Reel; Power Good: yes; Reset: yes; RoHS: TRUE; Mounting Technology: Surface Mount; ComponentLink1Description: Manufacturer URL; ComponentLink1URL: http://www.linear.com/; ComponentLink2Description: Datasheet; ComponentLink2URL: http://cds.linear.com/docs/en/datasheet/4252b12f.pdf; ComponentLink3Description: Package Specification; ComponentLink3URL: http://cds.linear.com/docs/en/packaging/05081661_F_MS.pdf
footprint LT-MS-10_N (SOP, 10-Leads, Body 3.1x3.1mm, Pitch 0.5mm, IPC Medium Density)
footprint LT-MS-10_L (SOP, 10-Leads, Body 3.1x3.1mm, Pitch 0.5mm, IPC High Density)
footprint LT-MS-10_M (SOP, 10-Leads, Body 3.1x3.1mm, Pitch 0.5mm, IPC Low Density)
pins: 1 VIN (power) "Positive Supply Input. Connect this pin to the positive side of the supply through a dropping resistor. A shunt regulator clamps VIN at 13V. An internal undervoltage lockout (UVLO) circuit holds GATE low until the VIN pin is (See Datasheet)", 2 ~{PWRGD} (out) "Power Good Status Output (MS only). At start-up, P\W\R\G\D\ latches low if DRAIN is below 2.385V and GATE is within 2.8V of VIN. P\W\R\G\D\ status is reset by UV, VIN (UVLO) or a circuit breaker fault timeout. This pin is (See Datasheet)", 3 SS (in) "Soft-Start Pin. This pin is used to ramp inrush current during start up, thereby effecting control over di/dt. A 20x attenuated version of the SS pin voltage is presented to the current limit amplifier. This attenuated (See Datasheet)", 4 SENSE (in) "Circuit Breaker/Current Limit Sense Pin. Load current is monitored by a sense resistor RS connected between SENSE and VEE, and controlled in three steps. If SENSE exceeds VCB (50mV), the circuit breaker comparator activates (See Datasheet)", 5 VEE (power) "Negative Supply Voltage Input. Connect this pin to the negative side of the power supply.", 6 GATE (out) "N-Channel MOSFET Gate Drive Output. This pin is pulled high by a 58uA current source. GATE is pulled low by invalid conditions at VIN (UVLO), UV, OV, or a circuit breaker fault timeout. GATE is actively servoed to control (See Datasheet)", 7 DRAIN (in) "Drain Sense Input. Connecting an external resistor, RD, between this pin and the MOSFET’s drain (VOUT) allows voltage sensing below 6.15V (5V for LTC4252C) and current feedback to TIMER. A comparator detects if DRAIN i(See Datasheet)", 8 OV (in) "Overvoltage Input. The active high threshold at the OV pin is set at 6.15V with 0.6V hysteresis. If OV > 6.15V, GATE pulls low. When OV returns below 5.55V, GATE start-up begins without an initial timing cycle. The LTC4252C (See Datasheet)", 9 UV (in) "Undervoltage Input. The active low threshold at the UV pin is set at 2.925V with 0.3V hysteresis. If UV < 2.925V, P\W\R\G\D\ pulls high, both GATE and TIMER pull low. If UV rises above 3.225V, this initiates an initial (See Datasheet)", 10 TIMER (in) "Timer Input. TIMER is used to generate an initial timing delay at start-up and to delay shutdown in the event of an output overload (circuit breaker fault). TIMER starts an initial timing cycle when the following conditions (See Datasheet)"

## LTC4252CIMS-1#PBF
designator U?
Negative Voltage Hot Swap Controller, 10-pin SOP (MS-10), -40 to 85 degC, Pb-Free; Manufacturer: Linear Technology; PartNumber: LTC4252CIMS-1#PBF; Active Limiting: yes; Circuit Breaker Accuracy(%): 10; Circuit Breaker Threshold: 50 mV; Circuit Breakers(#): 1; Extended Temp: C, I; In-Rush Current: Active/SS; PackageVersion: Rev. E, 06/2010; PackageReference: MS-10; PackageDescription: 10-Pin Plastic MSOP, Body 3 x 3 mm, Pitch 0.5 mm; Supplier 1: Digi-Key; Supplier Part Number 1: LTC4252CIMS-1#PBF-ND; Supplier 2: Farnell; Supplier Part Number 2: 2097901; Supplier 3: Newark; Supplier Part Number 3: 82T3943; Fast Comparator: yes; Fault: yes; Foldback: yes; Power Good: yes; Reset: yes; RoHS: TRUE; Mounting Technology: Surface Mount; ComponentLink1Description: Manufacturer URL; ComponentLink1URL: http://www.linear.com/; ComponentLink2Description: Datasheet; ComponentLink2URL: http://cds.linear.com/docs/en/datasheet/4252b12f.pdf; ComponentLink3Description: Package Specification; ComponentLink3URL: http://cds.linear.com/docs/en/packaging/05081661_F_MS.pdf
footprint LT-MS-10_N (SOP, 10-Leads, Body 3.1x3.1mm, Pitch 0.5mm, IPC Medium Density)
footprint LT-MS-10_L (SOP, 10-Leads, Body 3.1x3.1mm, Pitch 0.5mm, IPC High Density)
footprint LT-MS-10_M (SOP, 10-Leads, Body 3.1x3.1mm, Pitch 0.5mm, IPC Low Density)
pins: 1 VIN (power) "Positive Supply Input. Connect this pin to the positive side of the supply through a dropping resistor. A shunt regulator clamps VIN at 13V. An internal undervoltage lockout (UVLO) circuit holds GATE low until the VIN pin is (See Datasheet)", 2 ~{PWRGD} (out) "Power Good Status Output (MS only). At start-up, P\W\R\G\D\ latches low if DRAIN is below 2.385V and GATE is within 2.8V of VIN. P\W\R\G\D\ status is reset by UV, VIN (UVLO) or a circuit breaker fault timeout. This pin is (See Datasheet)", 3 SS (in) "Soft-Start Pin. This pin is used to ramp inrush current during start up, thereby effecting control over di/dt. A 20x attenuated version of the SS pin voltage is presented to the current limit amplifier. This attenuated (See Datasheet)", 4 SENSE (in) "Circuit Breaker/Current Limit Sense Pin. Load current is monitored by a sense resistor RS connected between SENSE and VEE, and controlled in three steps. If SENSE exceeds VCB (50mV), the circuit breaker comparator activates (See Datasheet)", 5 VEE (power) "Negative Supply Voltage Input. Connect this pin to the negative side of the power supply.", 6 GATE (out) "N-Channel MOSFET Gate Drive Output. This pin is pulled high by a 58uA current source. GATE is pulled low by invalid conditions at VIN (UVLO), UV, OV, or a circuit breaker fault timeout. GATE is actively servoed to control (See Datasheet)", 7 DRAIN (in) "Drain Sense Input. Connecting an external resistor, RD, between this pin and the MOSFET’s drain (VOUT) allows voltage sensing below 6.15V (5V for LTC4252C) and current feedback to TIMER. A comparator detects if DRAIN i(See Datasheet)", 8 OV (in) "Overvoltage Input. The active high threshold at the OV pin is set at 6.15V with 0.6V hysteresis. If OV > 6.15V, GATE pulls low. When OV returns below 5.55V, GATE start-up begins without an initial timing cycle. The LTC4252C (See Datasheet)", 9 UV (in) "Undervoltage Input. The active low threshold at the UV pin is set at 2.925V with 0.3V hysteresis. If UV < 2.925V, P\W\R\G\D\ pulls high, both GATE and TIMER pull low. If UV rises above 3.225V, this initiates an initial (See Datasheet)", 10 TIMER (in) "Timer Input. TIMER is used to generate an initial timing delay at start-up and to delay shutdown in the event of an output overload (circuit breaker fault). TIMER starts an initial timing cycle when the following conditions (See Datasheet)"

## LTC4252CIMS-1#TRPBF
designator U?
Negative Voltage Hot Swap Controller, 10-pin SOP (MS-10), -40 to 85 degC, Pb-Free, Tape and Reel; Manufacturer: Linear Technology; PartNumber: LTC4252CIMS-1#TRPBF; Active Limiting: yes; Circuit Breaker Accuracy(%): 10; Circuit Breaker Threshold: 50 mV; Circuit Breakers(#): 1; Extended Temp: C, I; In-Rush Current: Active/SS; PackageVersion: Rev. E, 06/2010; PackageReference: MS-10; PackageDescription: 10-Pin Plastic MSOP, Body 3 x 3 mm, Pitch 0.5 mm; Supplier 1: Digi-Key; Supplier Part Number 1: LTC4252CIMS-1#TRPBF-ND; Fast Comparator: yes; Fault: yes; Foldback: yes; Packing: Tape and Reel; Power Good: yes; Reset: yes; RoHS: TRUE; Mounting Technology: Surface Mount; ComponentLink1Description: Manufacturer URL; ComponentLink1URL: http://www.linear.com/; ComponentLink2Description: Datasheet; ComponentLink2URL: http://cds.linear.com/docs/en/datasheet/4252b12f.pdf; ComponentLink3Description: Package Specification; ComponentLink3URL: http://cds.linear.com/docs/en/packaging/05081661_F_MS.pdf
footprint LT-MS-10_N (SOP, 10-Leads, Body 3.1x3.1mm, Pitch 0.5mm, IPC Medium Density)
footprint LT-MS-10_L (SOP, 10-Leads, Body 3.1x3.1mm, Pitch 0.5mm, IPC High Density)
footprint LT-MS-10_M (SOP, 10-Leads, Body 3.1x3.1mm, Pitch 0.5mm, IPC Low Density)
pins: 1 VIN (power) "Positive Supply Input. Connect this pin to the positive side of the supply through a dropping resistor. A shunt regulator clamps VIN at 13V. An internal undervoltage lockout (UVLO) circuit holds GATE low until the VIN pin is (See Datasheet)", 2 ~{PWRGD} (out) "Power Good Status Output (MS only). At start-up, P\W\R\G\D\ latches low if DRAIN is below 2.385V and GATE is within 2.8V of VIN. P\W\R\G\D\ status is reset by UV, VIN (UVLO) or a circuit breaker fault timeout. This pin is (See Datasheet)", 3 SS (in) "Soft-Start Pin. This pin is used to ramp inrush current during start up, thereby effecting control over di/dt. A 20x attenuated version of the SS pin voltage is presented to the current limit amplifier. This attenuated (See Datasheet)", 4 SENSE (in) "Circuit Breaker/Current Limit Sense Pin. Load current is monitored by a sense resistor RS connected between SENSE and VEE, and controlled in three steps. If SENSE exceeds VCB (50mV), the circuit breaker comparator activates (See Datasheet)", 5 VEE (power) "Negative Supply Voltage Input. Connect this pin to the negative side of the power supply.", 6 GATE (out) "N-Channel MOSFET Gate Drive Output. This pin is pulled high by a 58uA current source. GATE is pulled low by invalid conditions at VIN (UVLO), UV, OV, or a circuit breaker fault timeout. GATE is actively servoed to control (See Datasheet)", 7 DRAIN (in) "Drain Sense Input. Connecting an external resistor, RD, between this pin and the MOSFET’s drain (VOUT) allows voltage sensing below 6.15V (5V for LTC4252C) and current feedback to TIMER. A comparator detects if DRAIN i(See Datasheet)", 8 OV (in) "Overvoltage Input. The active high threshold at the OV pin is set at 6.15V with 0.6V hysteresis. If OV > 6.15V, GATE pulls low. When OV returns below 5.55V, GATE start-up begins without an initial timing cycle. The LTC4252C (See Datasheet)", 9 UV (in) "Undervoltage Input. The active low threshold at the UV pin is set at 2.925V with 0.3V hysteresis. If UV < 2.925V, P\W\R\G\D\ pulls high, both GATE and TIMER pull low. If UV rises above 3.225V, this initiates an initial (See Datasheet)", 10 TIMER (in) "Timer Input. TIMER is used to generate an initial timing delay at start-up and to delay shutdown in the event of an output overload (circuit breaker fault). TIMER starts an initial timing cycle when the following conditions (See Datasheet)"